# Altium footprint library 0533980371.PcbLib: 1 footprints
Each footprint in its own frame and in the unit in brackets; x right, y up, seen from the top. Pads: shape width x height; smd on the part's side, far side on the other; paste and mask are expansions set on the pad; w line width, h text height; cw(c..) or ccw(c..) is an arc to the next point about the centre after c.
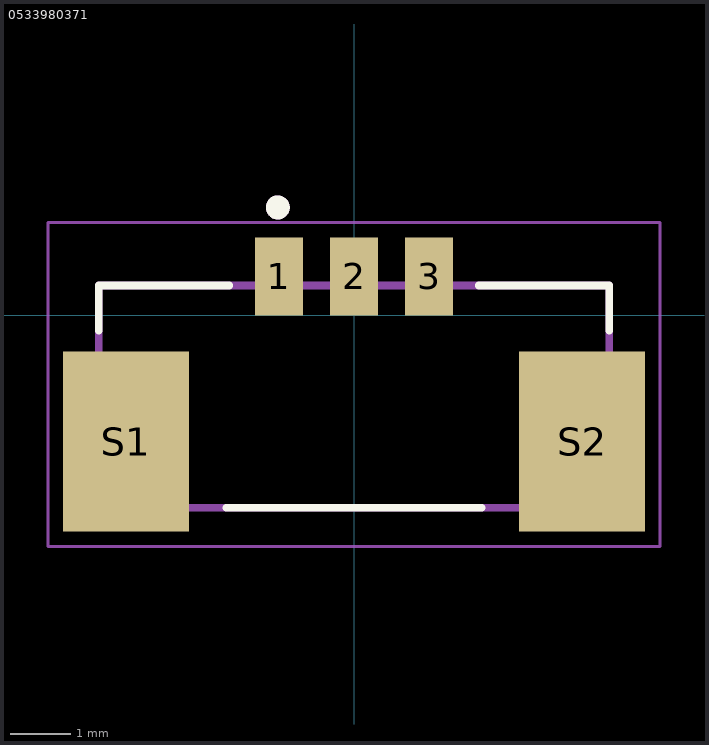
[diagram p0: the footprint, top view; thin cyan lines are the x and y axes]

## 0533980371 [mm]
pads (5):
  rect 0.8x1.3 smd: 1(-1.25,0.65) 2(0,0.65) 3(1.25,0.65)
  rect 2.1x3 smd: S1(-3.8,-2.1) S2(3.8,-2.1)
Top Overlay:
  circle w0.2: c-1.27,1.8 r0.1
  lines w0.127: -4.25,-0.25 -4.25,0.5 -2.075,0.5 ; -2.125,-3.2 2.125,-3.2 ; 2.075,0.5 4.25,0.5 4.25,-0.25
Top 3D Body:
  circle w0.2: c-1.27,1.8 r0.1
  lines w0.127: -4.25,-3.2 -4.25,0.5 4.25,0.5 4.25,-3.2 -4.25,-3.2
Top Courtyard:
  lines w0.05: -5.1,-3.85 -5.1,1.55 5.1,1.55 5.1,-3.85 -5.1,-3.85
3D body "0533980371.step": height 4.67, standoff -0.07, extent -4.45,-3.2 4.45,1